# Altium schematic symbol library Covert.SchLib: 1 symbol
Pins are listed as number, name and electrical type; pins without a type are passive.

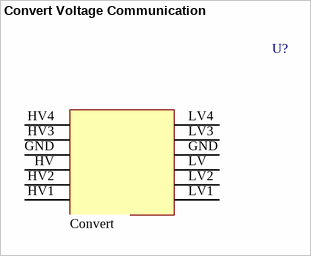
[diagram p0: symbol Convert Voltage Communication]

## Convert Voltage Communication
designator U?, comment Convert  (value not drawn)
footprint PCB-Convert; pin to pad GND>10 HV>4 HV1>6 HV2>5 HV3>2 HV4>1 LV>9 LV1>7 LV2>8 LV3>11 LV4>12
pins: GND, GND, HV, HV1, HV2, HV3, HV4, LV, LV1, LV2, LV3, LV4